# Altium footprint library Thunder-Refix.PcbLib: 28 footprints (part 2 of 2)
Each footprint in its own frame and in the unit in brackets; x right, y up, seen from the top. Pads: shape width x height; smd on the part's side, far side on the other; paste and mask are expansions set on the pad; w line width, h text height; cw(c..) or ccw(c..) is an arc to the next point about the centre after c.
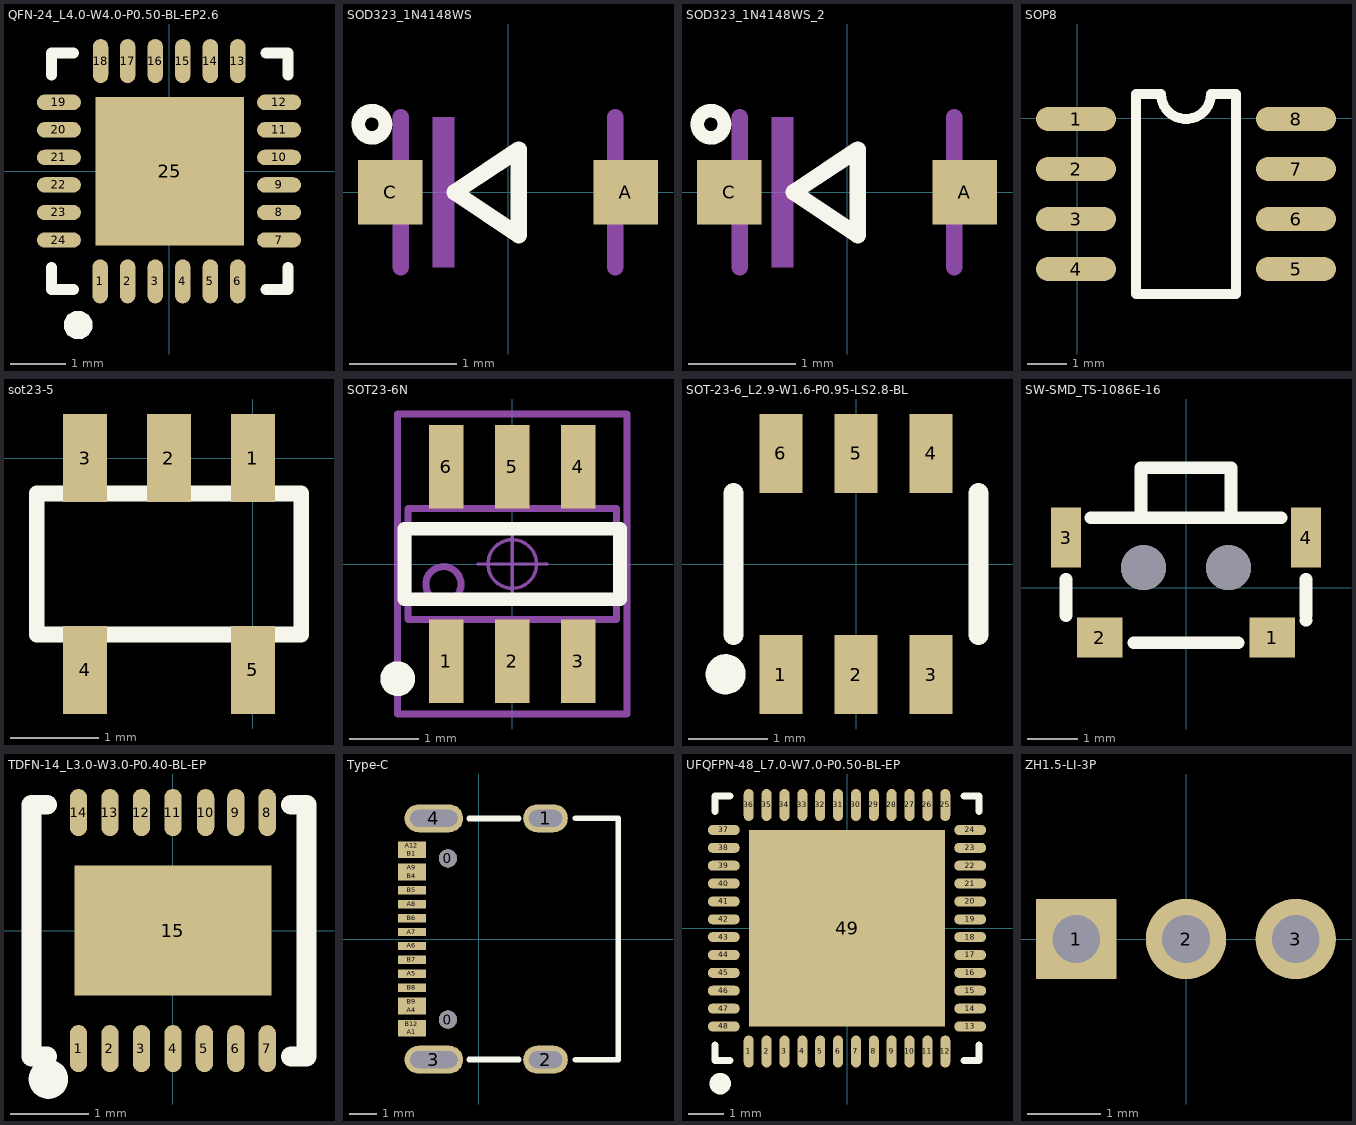
[diagram p1: the footprints below, top view; thin cyan lines are the x and y axes]

## QFN-24_L4.0-W4.0-P0.50-BL-EP2.6 [mm]
height 1
pads (25):
  oval 0.28x0.8 smd: 1(-1.25,-2) 2(-0.75,-2) 3(-0.25,-2) 4(0.25,-2) 5(0.75,-2) 6(1.25,-2) 13(1.25,2) 14(0.75,2) 15(0.25,2) 16(-0.25,2) 17(-0.75,2) 18(-1.242,2)
  oval 0.8x0.28 smd: 7(2,-1.25) 8(2,-0.75) 9(2,-0.25) 10(2,0.25) 11(2,0.75) 12(2,1.25) 19(-2,1.25) 20(-2,0.75) 21(-2,0.25) 22(-2,-0.25) 23(-2,-0.75) 24(-2,-1.25)
  rect 2.7x2.7 smd: 25(0.013,0)
Top Overlay:
  region: -1.397,-2.792 -1.398,-2.724 -1.466,-2.607 -1.584,-2.539 -1.72,-2.54 -1.838,-2.608 -1.905,-2.726 -1.905,-2.861 -1.838,-2.979 -1.72,-3.047 -1.584,-3.048 -1.466,-2.98 -1.398,-2.863 -1.397,-2.795
  lines w0.2: -2.137,-1.75 -2.137,-2.15 -1.737,-2.15 ; -2.137,1.75 -2.137,2.15 -1.737,2.15 ; 1.763,-2.15 2.163,-2.15 2.163,-1.75 ; 1.763,2.15 2.163,2.15 2.163,1.75

## SOD323_1N4148WS [mm]
height 2.65
pads (2):
  rect 0.6x0.6 smd: A(1.1,0) C(-1.1,0)
Top Overlay:
  circle w0.127: c-1.27,0.635 r0.127
  lines w0.152: -0.5,0 0.1,-0.4 0.1,0.4 -0.5,0
Mechanical 4:
  region: -0.701,0.7 -0.5,0.7 -0.5,-0.701 -0.701,-0.701
  region: -0.701,0.7 -0.5,0.7 -0.5,-0.701 -0.701,-0.701
  lines w0.152: -1,-0.7 -1,0.7 -1,-0.7 ; 1,-0.7 1,0.7 1,-0.7
3D body "1N4148WS.STEP": height 0.9, standoff 0, extent -1.25,-0.625 1.25,0.625

## SOD323_1N4148WS_2 [mm]
pads (2):
  rect 0.6x0.6 smd: A(1.1,0) C(-1.1,0)
Top Overlay:
  circle w0.127: c-1.27,0.635 r0.127
  lines w0.152: -0.5,0 0.1,-0.4 0.1,0.4 -0.5,0
Mechanical 4:
  region: -0.701,0.7 -0.5,0.7 -0.5,-0.701 -0.701,-0.701
  region: -0.701,0.7 -0.5,0.7 -0.5,-0.701 -0.701,-0.701
  lines w0.152: -1,-0.7 -1,0.7 -1,-0.7 ; 1,-0.7 1,0.7 1,-0.7
3D body "1N4148WS.STEP": height 0.9, standoff 0, extent -1.25,-0.625 1.25,0.625

## SOP8 [mil]
height 39.37
pads (8):
  oval 80x24 smd: 1(-1,-1) 2(-1,-51) 3(-1,-101) 4(-1,-151) 5(219,-151) 6(219,-101) 7(219,-51) 8(219,-1)
Top Overlay:
  lines w10: 59,-176 59,24 84,24 ccw(c109,24) 134,24 159,24 159,-176 59,-176
3D body "SOP8.STEP": height 62.99, standoff 0, extent -8.7,-173.62 229.17,24.02

## sot23-5 [mm]
pads (5):
  rect 0.5x1 smd: 1(0,0) 2(-0.95,0) 3(-1.9,0) 4(-1.9,-2.4) 5(0,-2.4)
Top Overlay:
  lines w0.178: -2.45,-2 0.55,-2 0.55,-0.4 -2.45,-0.4 -2.45,-2
3D body "User Library-SOT23-5.STEP": height 1.09, standoff -0.01, extent -2.399,-2.599 0.5,0.201

## SOT23-6N [mm] "3x1.6x1.1mm(长宽高)"
height 1.45
pads (6):
  rect 0.5x1.2 smd: 1(-0.95,-1.4) 2(0,-1.4) 3(0.95,-1.4) 4(0.95,1.4) 5(0,1.4) 6(-0.95,1.4)
Top Overlay:
  circle w0.25: c-1.651,-1.651 r0.125
  lines w0.2: -1.55,-0.508 1.55,-0.508 1.55,0.508 -1.55,0.508 -1.55,-0.508
Mechanical 13:
  circle w0.1: c-0.992,-0.292 r0.254
  lines w0.1: -1.5,-0.8 -1.5,0.8 1.5,0.8 1.5,-0.8 -1.5,-0.8
Mechanical 15:
  circle w0.05: c0,0 r0.35
  lines w0.05: -0.5,0 0.5,0 ; 0,-0.5 0,0.5
  lines w0.1: -1.651,-2.159 -1.651,2.159 1.651,2.159 1.651,-2.159 -1.651,-2.159
3D body "SOT23-6.STEP": height 1.15, standoff -0.03, extent -1.5,-1.403 1.5,1.403

## SOT-23-6_L2.9-W1.6-P0.95-LS2.8-BL [mm]
pads (6):
  rect 0.55x1 smd: 1(-0.95,-1.4) 2(0,-1.4) 3(0.95,-1.4) 4(0.95,1.4) 5(0,1.4) 6(-0.95,1.4)
Top Overlay:
  circle w0.254: c-1.651,-1.397 r0.127
  lines w0.254: -1.55,-0.9 -1.55,0.9 ; 1.55,-0.9 1.55,0.9

## SW-SMD_TS-1086E-16 [mm]
height 1
pads (6):
  rect 0.9x0.8 smd: 1(1.725,-1) 2(-1.725,-1)
  rect 0.6x1.2 smd: 3(-2.4,1) 4(2.4,1)
  round 0.9 hole 0.9 unplated: ""(-0.85,0.4) ""(0.85,0.4)
Top Overlay:
  lines w0.254: -2.4,-0.557 -2.4,0.169 ; -1.9,1.4 1.9,1.4 ; -1.044,-1.1 1.044,-1.1 ; -0.9,1.4 -0.9,2.4 0.9,2.4 0.9,1.4 ; 2.4,-0.557 2.4,0.169 ; 2.4,-0.65 2.401,-0.65

## TDFN-14_L3.0-W3.0-P0.40-BL-EP [mm]
height 1
pads (15):
  oval 0.22x0.6 smd: 1(-1.2,-1.5) 2(-0.8,-1.5) 3(-0.4,-1.5) 4(0.001,-1.5) 5(0.4,-1.5) 6(0.8,-1.5) 7(1.2,-1.5) 8(1.2,1.5) 9(0.8,1.5) 10(0.416,1.5) 11(0,1.5) 12(-0.4,1.5) 13(-0.8,1.5) 14(-1.2,1.5)
  rect 2.5x1.65 smd: 15(0,0)
Top Overlay:
  lines w0.25: -1.584,-1.764 ccw(c-1.583,-1.889) -1.582,-1.764
  lines w0.254: -1.6,-1.6 -1.8,-1.6 -1.8,1.6 -1.6,1.6 ; 1.5,-1.6 1.7,-1.6 1.7,1.6 1.5,1.6

## Type-C [mm]
height 1
pads (22):
  round 0.65 hole 0.65: 0(-1.105,-2.89) 0(-1.105,2.89)
  oval 1.6x1 hole 0.6 slot 1.2 at 0 deg: 1(2.395,4.325) 2(2.395,-4.325)
  oval 2.1x1 hole 0.6 slot 1.7 at 0 deg: 3(-1.605,-4.325) 4(-1.605,4.325)
  rect 1x0.3 smd: A1(-2.395,-3.35) A4(-2.395,-2.55) A5(-2.395,-1.25) A6(-2.395,-0.25) A7(-2.395,0.25) A8(-2.395,1.25) A9(-2.395,2.55) A12(-2.395,3.35) B1(-2.395,3.05) B4(-2.395,2.25) B5(-2.395,1.75) B6(-2.395,0.75) B7(-2.395,-0.75) B8(-2.395,-1.75) B9(-2.395,-2.25) B12(-2.395,-3.05)
Top Overlay:
  lines w0.203: -0.343,-4.318 1.435,-4.318 ; -0.343,4.318 1.435,4.318 ; 3.467,-4.325 4.995,-4.325 4.995,4.325 3.467,4.325
3D body "User Library-USB Type C Port (SMD Type).STEP": height 1.61, standoff -2.6, extent -1270,-1270 -1262.1,-1261.06

## UFQFPN-48_L7.0-W7.0-P0.50-BL-EP [mm]
height 1
pads (49):
  oval 0.28x0.896 smd: 1(-2.751,-3.449) 2(-2.25,-3.449) 3(-1.75,-3.449) 4(-1.25,-3.449) 5(-0.749,-3.449) 6(-0.249,-3.449) 7(0.249,-3.449) 8(0.749,-3.449) 9(1.25,-3.449) 10(1.75,-3.449) 11(2.25,-3.449) 12(2.751,-3.449) 25(2.751,3.449) 26(2.25,3.449) 27(1.75,3.449) 28(1.25,3.449) 29(0.749,3.449) 30(0.249,3.449) 31(-0.249,3.449) 32(-0.749,3.449) 33(-1.25,3.449) 34(-1.75,3.449) 35(-2.25,3.449) 36(-2.751,3.449)
  oval 0.896x0.28 smd: 13(3.449,-2.751) 14(3.449,-2.25) 15(3.449,-1.75) 16(3.449,-1.25) 17(3.449,-0.749) 18(3.449,-0.249) 19(3.449,0.249) 20(3.449,0.749) 21(3.449,1.25) 22(3.449,1.75) 23(3.449,2.25) 24(3.449,2.751) 37(-3.449,2.751) 38(-3.449,2.25) 39(-3.449,1.75) 40(-3.449,1.25) 41(-3.449,0.749) 42(-3.449,0.249) 43(-3.449,-0.249) 44(-3.449,-0.749) 45(-3.449,-1.25) 46(-3.449,-1.75) 47(-3.449,-2.25) 48(-3.449,-2.751)
  rect 5.5x5.5 smd: 49(0,0)
Top Overlay:
  lines w0.2: -3.7,-3.275 -3.7,-3.7 -3.275,-3.7 ; -3.7,3.275 -3.7,3.7 -3.275,3.7 ; 3.275,-3.7 3.7,-3.7 3.7,-3.275 ; 3.275,3.7 3.7,3.7 3.7,3.275
  lines w0.3: -3.551,-4.201 ccw(c-3.55,-4.351) -3.548,-4.201

## ZH1.5-LI-3P [mm] "长：6.0，宽：3.65，高：4.55"
pads (3):
  rect 1.1x1.1 hole 0.65: 1(-1.5,0)
  round 1.1 hole 0.65: 2(0,0) 3(1.5,0)
Mechanical 15:
  circle w0.05: c0,0 r0.35
  lines w0.05: -0.5,0 0.5,0 ; 0,-0.5 0,0.5